# EAGLE library part B6B-PH-K-S (library con-JST-PH)
JST-PH 6-way vertical TH
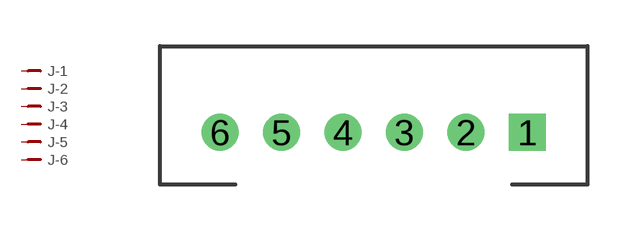
[diagram p0: symbol with the pads of B6B-PH-K-S; footprint B6B-PH-K-S]

Designator prefix J; gates -1=PM-N -2=PM-N -3=PM-N -4=PM-N -5=PM-N -6=PM-N

## B6B-PH-K-S  [B6B-PH-K-S]
1  -1:1  pas
2  -2:1  pas
3  -3:1  pas
4  -4:1  pas
5  -5:1  pas
6  -6:1  pas

## Footprint B6B-PH-K-S (pad centres in mm)
JST-PH (2mm) 6-pin through-hole Wire-Board connector
drill 0.7 square: 1 5,0
drill 0.7: 2 3,0; 3 1,0; 4 -1,0; 5 -3,0; 6 -5,0